# Altium schematic symbol library xt30upb-m.SchLib: 1 symbol
Pins are listed as number, name and electrical type; pins without a type are passive.

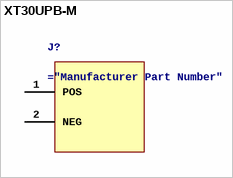
[diagram p0: symbol XT30UPB-M]

## XT30UPB-M
designator J?
Vertical PCB mount XT30 male
pins: 1 POS, 2 NEG